# EAGLE library part SI5351A (library jmolterLib)
Si5351a I2C programmable oscillator
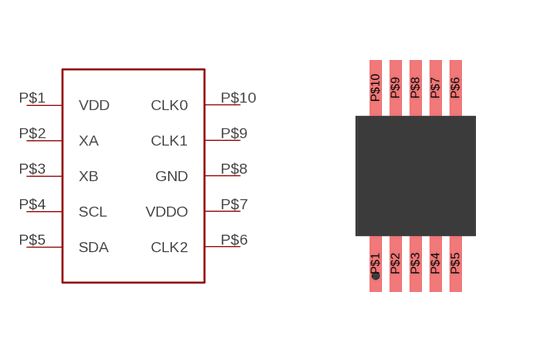
[diagram p0: symbol with the pads of 10-MSOP; footprint 10-MSOP]

Designator prefix -

## SI5351A  [10-MSOP]
P$1  VDD
P$2  XA
P$3  XB
P$4  SCL
P$5  SDA
P$6  CLK2
P$7  VDDO
P$8  GND
P$9  CLK1
P$10  CLK0

## Footprint 10-MSOP (pad centres in mm)
smd 0.3 x 1.4: P$1 -1,-2.2; P$2 -0.5,-2.2; P$3 0,-2.2; P$4 0.5,-2.2; P$5 1,-2.2; P$6 1,2.2; P$7 0.5,2.2; P$8 0,2.2; P$9 -0.5,2.2; P$10 -1,2.2